# EAGLE library part TDK-CKCA (library ChicagoRobotics)
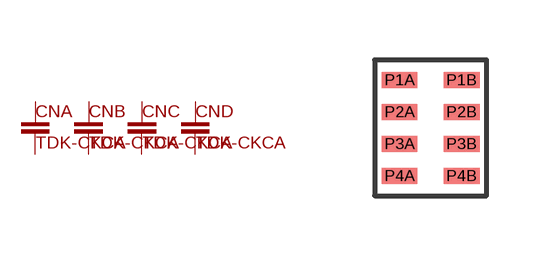
[diagram p5: symbol with the pads of TDK-CKCA43; footprint TDK-CKCA43]

Designator prefix CN; gates A=C-EU B=C-EU C=C-EU D=C-EU

## TDK-CKCA  [TDK-CKCA43]
P1A  A:1  pas
P1B  A:2  pas
P2A  B:1  pas
P2B  B:2  pas
P3A  C:1  pas
P3B  C:2  pas
P4A  D:1  pas
P4B  D:2  pas

## Footprint TDK-CKCA43 (pad centres in mm)
smd 0.9 x 0.4: P1A -0.775,1.2; P1B 0.775,1.2; P2A -0.775,0.4; P2B 0.775,0.4; P3A -0.775,-0.4; P3B 0.775,-0.4; P4A -0.775,-1.2; P4B 0.775,-1.2